# EAGLE library part SF-BTAUDIO-BOB (library mmoretti)
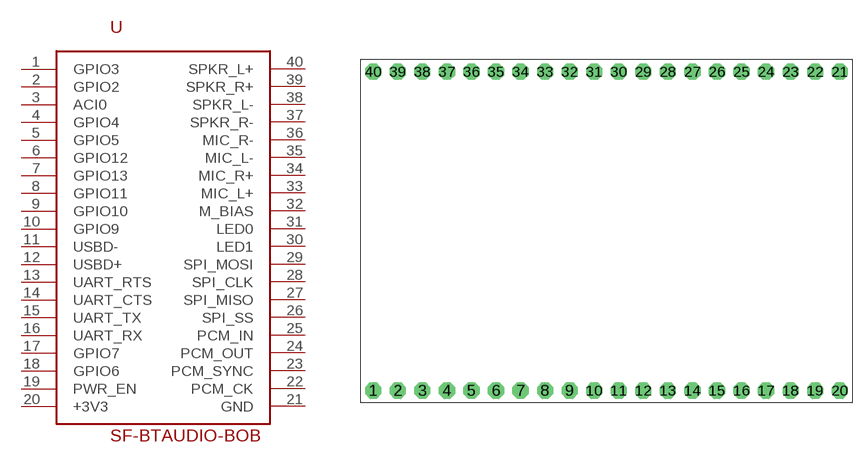
[diagram p11: symbol with the pads of BOB-20X14; footprint BOB-20X14]

Designator prefix -

## SF-BTAUDIO-BOB  [BOB-20X14]
1  GPIO3
2  GPIO2
3  ACI0
4  GPIO4
5  GPIO5
6  GPIO12
7  GPIO13
8  GPIO11
9  GPIO10
10  GPIO9
11  USBD-
12  USBD+
13  UART_RTS
14  UART_CTS
15  UART_TX
16  UART_RX
17  GPIO7
18  GPIO6
19  PWR_EN
20  +3V3  pwr
21  GND  pwr
22  PCM_CK
23  PCM_SYNC
24  PCM_OUT
25  PCM_IN
26  SPI_SS
27  SPI_MISO
28  SPI_CLK
29  SPI_MOSI
30  LED1
31  LED0
32  M_BIAS
33  MIC_L+  in
34  MIC_R+  in
35  MIC_L-  in
36  MIC_R-  in
37  SPKR_R-  out
38  SPKR_L-  out
39  SPKR_R+  out
40  SPKR_L+  out

## Footprint BOB-20X14 (pad centres in mm)
drill 1.016 pad 1.676 octagon: 1 -24.13,-16.51; 2 -21.59,-16.51; 3 -19.05,-16.51; 4 -16.51,-16.51; 5 -13.97,-16.51; 6 -11.43,-16.51; 7 -8.89,-16.51; 8 -6.35,-16.51; 9 -3.81,-16.51; 10 -1.27,-16.51; 11 1.27,-16.51; 12 3.81,-16.51; 13 6.35,-16.51; 14 8.89,-16.51; 15 11.43,-16.51; 16 13.97,-16.51; 17 16.51,-16.51; 18 19.05,-16.51; 19 21.59,-16.51; 20 24.13,-16.51; 21 24.13,16.51; 22 21.59,16.51; 23 19.05,16.51; 24 16.51,16.51; 25 13.97,16.51; 26 11.43,16.51; 27 8.89,16.51; 28 6.35,16.51; 29 3.81,16.51; 30 1.27,16.51; 31 -1.27,16.51; 32 -3.81,16.51; 33 -6.35,16.51; 34 -8.89,16.51; 35 -11.43,16.51; 36 -13.97,16.51; 37 -16.51,16.51; 38 -19.05,16.51; 39 -21.59,16.51; 40 -24.13,16.51